# Altium footprint library WL-STSW.PcbLib: 1 footprints
Each footprint in its own frame and in the unit in brackets; x right, y up, seen from the top. Pads: shape width x height; smd on the part's side, far side on the other; paste and mask are expansions set on the pad; w line width, h text height; cw(c..) or ccw(c..) is an arc to the next point about the centre after c.
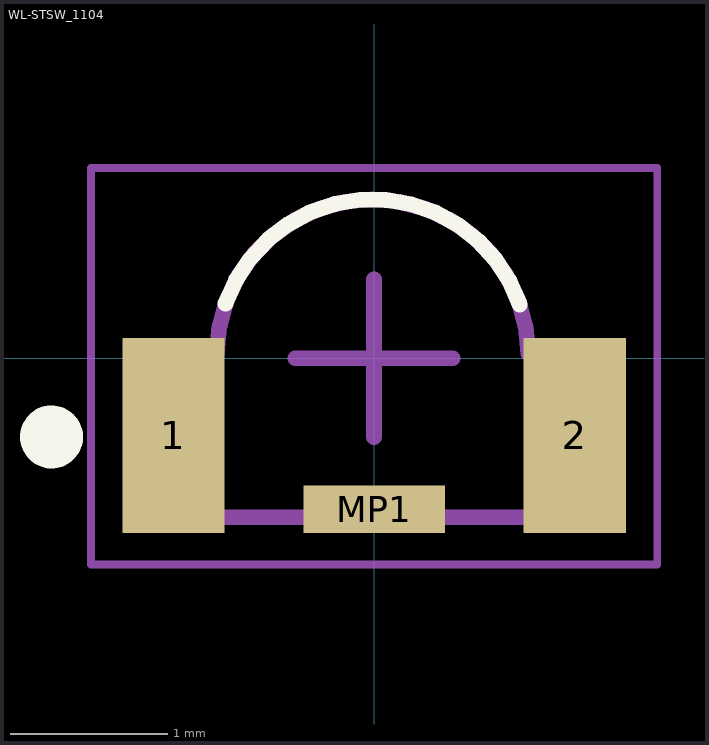
[diagram p0: the footprint, top view; thin cyan lines are the x and y axes]

## WL-STSW_1104 [mm] "SMT Phototransistor Sideview Waterclear, body 3x0.98mm"
height 1.1
pads (3):
  rect 0.65x1.24 smd: 1(-1.275,-0.49) 2(1.275,-0.49)
  rect 0.9x0.3 smd: MP1(0,-0.96)
Top Overlay:
  circle w0.2: c-2.05,-0.5 r0.1
  lines w0.1: -0.944,0.348 cw(c-0.01,0.02) 0.926,0.342
Top Assembly:
  rectangle: -1.5,-1.01 -1.2,0.03
  lines w0.1: 1.5,0.03 0.98,0.03 ccw(c-0.01,0.02) -1,0.03 -1.5,0.03 -1.5,-1.01 1.5,-1.01 1.5,0.03
Top Designator:
  text ".Designator" at -3.647,-0.357 h1
Top 3D Body:
  rectangle: -1.5,-1.01 -1.2,0.03
  lines w0.1: 1.5,0.03 0.98,0.03 ccw(c-0.01,0.02) -1,0.03 -1.5,0.03 -1.5,-1.01 1.5,-1.01 1.5,0.03
Top Courtyard:
  lines w0.05: -1.8,-1.31 1.8,-1.31 1.8,1.21 -1.8,1.21 -1.8,-1.31
Top Component Center:
  lines w0.1: -0.5,0 0.5,0 ; 0,-0.5 0,0.5
3D body "1541141NAA570_CTM.stp": height 1.02, standoff 0.02, extent -1.5,-1.01 1.5,1.03